# Altium schematic symbol library AO4812.SchLib: 1 symbol
Pins are listed as number, name and electrical type; pins without a type are passive.

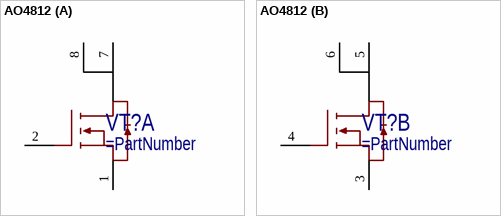
[diagram p0: symbol AO4812]

## AO4812
designator VT?
Сборка из полевых транзисторов, 2N-канальный, 30 В, 6.9 А
part A pins: 1, 2, 7, 8
part B pins: 3, 4, 5, 6